# Altium integrated library T543B107K006AHW025.IntLib: 1 symbol
Pins are listed as number, name and electrical type; pins without a type are passive.

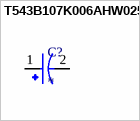
[diagram p0: symbol T543B107K006AHW025]

## T543B107K006AHW025
designator C?
100 ÂµF Molded Tantalum Polymer Capacitor 6.3 V 1411 (3528 Metric) 25mOhm @ 100kHz; MF: KEMET; MP: T543B107K006AHW025; SnapEDA_Link: https://www.snapeda.com/parts/T543B107K006AHW025/KEMET/view-part/?ref=snap; Package: SMD-2 Kemet; Value: *; Check_prices: https://www.snapeda.com/parts/T543B107K006AHW025/KEMET/view-part/?ref=eda
footprint CAPMP3528X210N
pins: 1, 2